# EAGLE library part ARDUINO-BBLEO (library SPCoast)
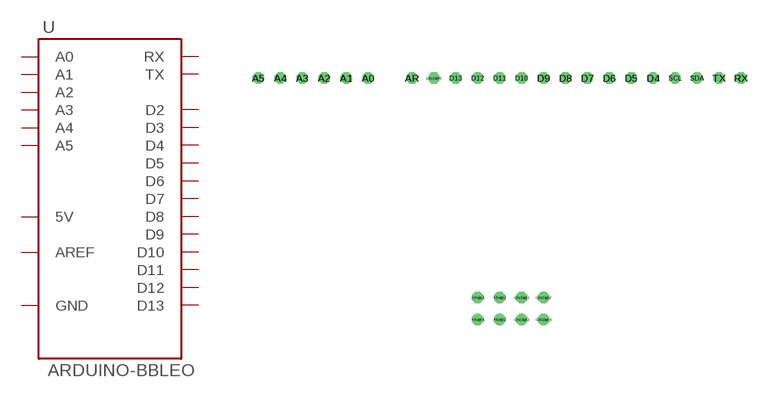
[diagram p72: symbol with the pads of ARDUINO-BBLEO; footprint ARDUINO-BBLEO]

Designator prefix -

## ARDUINO-BBLEO  [ARDUINO-BBLEO]
+5V@1  5V
+5V@2  5V
+5V@3  5V
+5V@4  5V
A0  A0
A1  A1
A2  A2
A3  A3
A4  A4
A5  A5
AR  AREF
D4  D4
D5  D5
D6  D6
D7  D7
D8  D8
D9  D9
D10  D10
D11  D11
D12  D12
D13  D13
GND@0  GND
GND@1  GND
GND@2  GND
GND@3  GND
GND@4  GND
RX  RX
SCL  D3
SDA  D2
TX  TX

## Footprint ARDUINO-BBLEO (pad centres in mm)
drill 0.8 octagon: +5V@1 40.64,5.08; +5V@2 40.64,2.54; +5V@3 38.1,5.08; +5V@4 38.1,2.54; A0 25.4,30.48; A1 22.86,30.48; A2 20.32,30.48; A3 17.78,30.48; A4 15.24,30.48; A5 12.7,30.48; AR 30.48,30.48; D4 58.42,30.48; D5 55.88,30.48; D6 53.34,30.48; D7 50.8,30.48; D8 48.26,30.48; D9 45.72,30.48; D10 43.18,30.48; D11 40.64,30.48; D12 38.1,30.48; D13 35.56,30.48; GND@0 33.02,30.48; GND@1 43.18,5.08; GND@2 45.72,5.08; GND@3 43.18,2.54; GND@4 45.72,2.54; RX 68.58,30.48; SCL 60.96,30.48; SDA 63.5,30.48; TX 66.04,30.48